# EAGLE library part TPS62172DSGR (library MF_IC_Power)
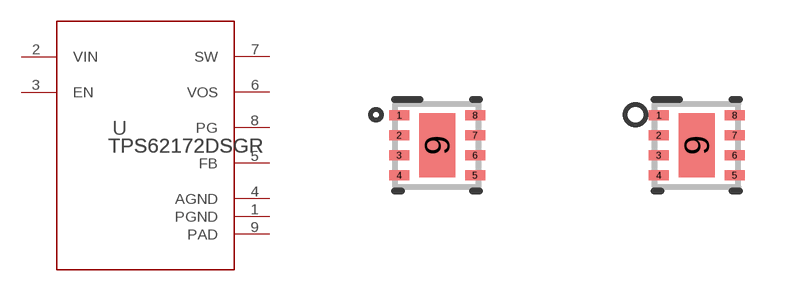
[diagram p8: symbol with the pads of DSG0008A; footprints DSG0008A, DSG0008A_NV]

Designator prefix U

## TPS62172DSGR (COPYRIGHT: Copyright (C) 2025 Ultra Librarian. All rights reserved.; MANUFACTURER_PART_NUMBER: TPS62172DSGR; MFR_NAME: Texas Instruments; REFDES: RefDes; TYPE: TYPE)  [DSG0008A]
1  PGND  pwr
2  VIN  pwr
3  EN  in
4  AGND  pwr
5  FB  in
6  VOS  in
7  SW  pwr
8  PG  hiz
9  PAD  pwr

## TPS62172DSGRDSG0008A_NV (COPYRIGHT: Copyright (C) 2025 Ultra Librarian. All rights reserved.; MANUFACTURER_PART_NUMBER: TPS62172DSGR; MFR_NAME: Texas Instruments; REFDES: RefDes; TYPE: TYPE)  [DSG0008A_NV]
Pads as for DSG0008A

## Footprint DSG0008A (pad centres in mm)
smd 0.5 x 0.25: 1 -0.95,0.75; 2 -0.95,0.25; 3 -0.95,-0.25; 4 -0.95,-0.75; 5 0.95,-0.75; 6 0.95,-0.25; 7 0.95,0.25; 8 0.95,0.75
smd 0.9 x 1.6: 9 0,0

## Footprint DSG0008A_NV (pad centres in mm)
smd 0.5 x 0.25: 1 -0.95,0.75; 2 -0.95,0.25; 3 -0.95,-0.25; 4 -0.95,-0.75; 5 0.95,-0.75; 6 0.95,-0.25; 7 0.95,0.25; 8 0.95,0.75
smd 0.9 x 1.6: 9 0,0